# EAGLE library part LC4064ZE_XXMN64_S (library lattice_ispmach4000ze)
ispMACH 4064ZE csBGA64, Split Lattice Semiconductor Corporation - ispMACH 4000ZE Ultra Low Power, Low Cost CPLD Family Generated using Lattice BSDL models: http://www.latticesemi.com/dynamic/index.cfm?fuseaction=view_documents&document_type=36&sloc=01-01-02-01&source=sidebar
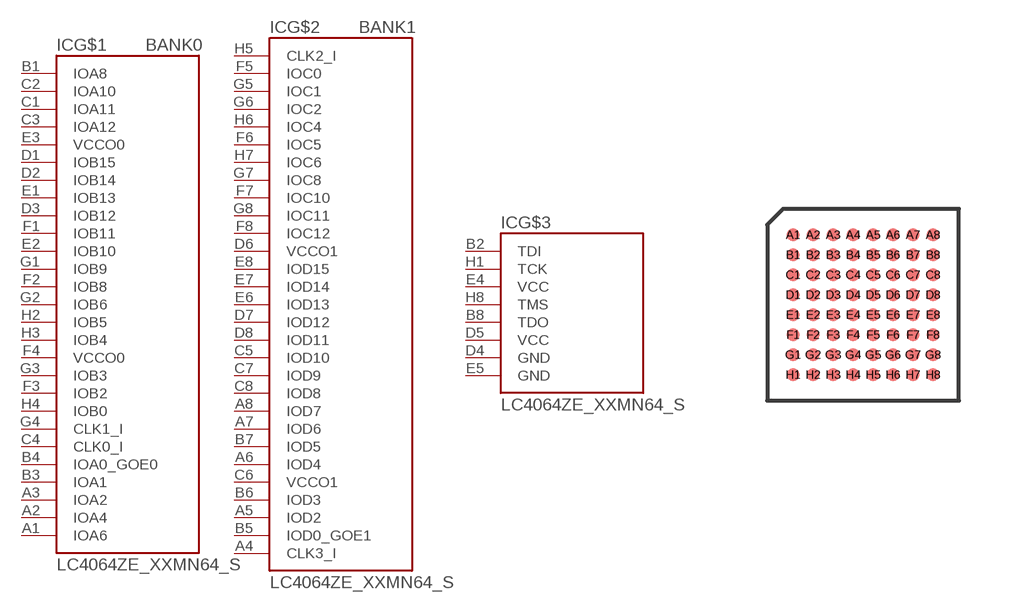
[diagram p16: symbol with the pads of CSBGA64; footprint CSBGA64]

Designator prefix IC; gates G$1=ISPMACH_LC4064ZE_MN64_PARTA G$2=ISPMACH_LC4064ZE_MN64_PARTB G$3=ISPMACH_LC4064ZE_MN64_PARTC

## LC4064ZE_XXMN64_S  [CSBGA64]
A1  G$1:IOA6
A2  G$1:IOA4
A3  G$1:IOA2
A4  G$2:CLK3_I  in
A5  G$2:IOD2
A6  G$2:IOD4
A7  G$2:IOD6
A8  G$2:IOD7
B1  G$1:IOA8
B2  G$3:TDI  in
B3  G$1:IOA1
B4  G$1:IOA0_GOE0
B5  G$2:IOD0_GOE1
B6  G$2:IOD3
B7  G$2:IOD5
B8  G$3:TDO  out
C1  G$1:IOA11
C2  G$1:IOA10
C3  G$1:IOA12
C4  G$1:CLK0_I  in
C5  G$2:IOD10
C6  G$2:VCCO1  pwr
C7  G$2:IOD9
C8  G$2:IOD8
D1  G$1:IOB15
D2  G$1:IOB14
D3  G$1:IOB12
D4  G$3:GND  pwr
D5  G$3:VCC  pwr
D6  G$2:VCCO1  pwr
D7  G$2:IOD12
D8  G$2:IOD11
E1  G$1:IOB13
E2  G$1:IOB10
E3  G$1:VCCO0  pwr
E4  G$3:VCC  pwr
E5  G$3:GND  pwr
E6  G$2:IOD13
E7  G$2:IOD14
E8  G$2:IOD15
F1  G$1:IOB11
F2  G$1:IOB8
F3  G$1:IOB2
F4  G$1:VCCO0  pwr
F5  G$2:IOC0
F6  G$2:IOC5
F7  G$2:IOC10
F8  G$2:IOC12
G1  G$1:IOB9
G2  G$1:IOB6
G3  G$1:IOB3
G4  G$1:CLK1_I  in
G5  G$2:IOC1
G6  G$2:IOC2
G7  G$2:IOC8
G8  G$2:IOC11
H1  G$3:TCK  in
H2  G$1:IOB5
H3  G$1:IOB4
H4  G$1:IOB0
H5  G$2:CLK2_I  in
H6  G$2:IOC4
H7  G$2:IOC6
H8  G$3:TMS  in

## Footprint CSBGA64 (pad centres in mm)
csBGA - 64 http://www.latticesemi.com/lit/docs/package/pkg.pdf
smd 0.32 x 0.32: A1 -1.75,1.75; A2 -1.25,1.75; A3 -0.75,1.75; A4 -0.25,1.75; A5 0.25,1.75; A6 0.75,1.75; A7 1.25,1.75; A8 1.75,1.75; B1 -1.75,1.25; B2 -1.25,1.25; B3 -0.75,1.25; B4 -0.25,1.25; B5 0.25,1.25; B6 0.75,1.25; B7 1.25,1.25; B8 1.75,1.25; C1 -1.75,0.75; C2 -1.25,0.75; C3 -0.75,0.75; C4 -0.25,0.75; C5 0.25,0.75; C6 0.75,0.75; C7 1.25,0.75; C8 1.75,0.75; D1 -1.75,0.25; D2 -1.25,0.25; D3 -0.75,0.25; D4 -0.25,0.25; D5 0.25,0.25; D6 0.75,0.25; D7 1.25,0.25; D8 1.75,0.25; E1 -1.75,-0.25; E2 -1.25,-0.25; E3 -0.75,-0.25; E4 -0.25,-0.25; E5 0.25,-0.25; E6 0.75,-0.25; E7 1.25,-0.25; E8 1.75,-0.25; F1 -1.75,-0.75; F2 -1.25,-0.75; F3 -0.75,-0.75; F4 -0.25,-0.75; F5 0.25,-0.75; F6 0.75,-0.75; F7 1.25,-0.75; F8 1.75,-0.75; G1 -1.75,-1.25; G2 -1.25,-1.25; G3 -0.75,-1.25; G4 -0.25,-1.25; G5 0.25,-1.25; G6 0.75,-1.25; G7 1.25,-1.25; G8 1.75,-1.25; H1 -1.75,-1.75; H2 -1.25,-1.75; H3 -0.75,-1.75; H4 -0.25,-1.75; H5 0.25,-1.75; H6 0.75,-1.75; H7 1.25,-1.75; H8 1.75,-1.75